# Altium footprint library TEP_243-Altium_Library.PcbLib: 103 footprints (part 6 of 7)
Each footprint in its own frame and in the unit in brackets; x right, y up, seen from the top. Pads: shape width x height; smd on the part's side, far side on the other; paste and mask are expansions set on the pad; w line width, h text height; cw(c..) or ccw(c..) is an arc to the next point about the centre after c.
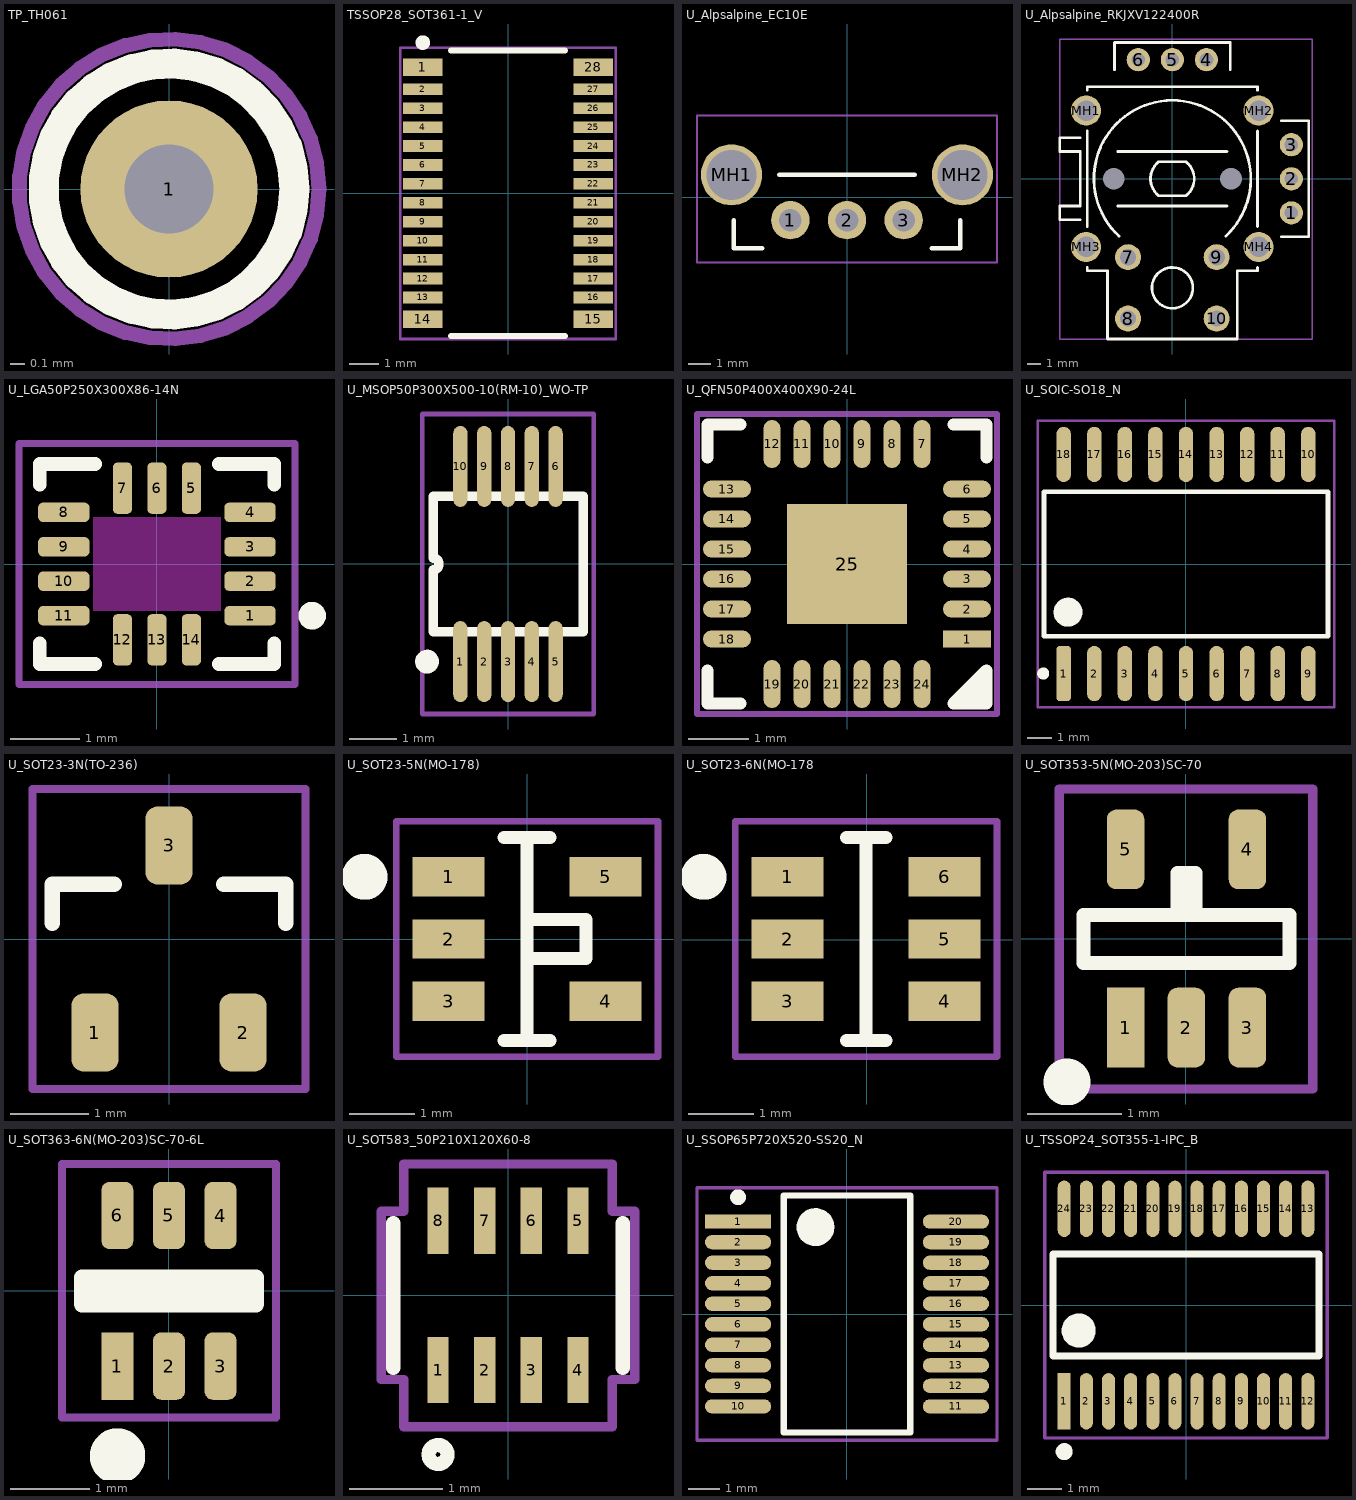
[diagram p5: the footprints below, top view; thin cyan lines are the x and y axes]

## TP_TH061 [mm] "Test point hole 0.61mm diameter (AWG28)"
height 0.01
pads (1):
  round 1.2 hole 0.6: 1(0,0)
Top Overlay:
  circle w0.203: c0,0 r0.85
Top Courtyard:
  circle w0.1: c0,0 r1.016

## TSSOP28_SOT361-1_V [mm] "SOP, 28-Leads, Body 9.7x4.4mm, Pitch 0.65mm, NXP Recommended"
height 1.1
pads (28):
  rect 1.35x0.6 smd: 1(-2.925,4.325) 14(-2.925,-4.325) 15(2.925,-4.325) 28(2.925,4.325)
  rect 1.35x0.4 smd: 2(-2.925,3.575) 3(-2.925,2.925) 4(-2.925,2.275) 5(-2.925,1.625) 6(-2.925,0.975) 7(-2.925,0.325) 8(-2.925,-0.325) 9(-2.925,-0.975) 10(-2.925,-1.625) 11(-2.925,-2.275) 12(-2.925,-2.925) 13(-2.925,-3.575) 16(2.925,-3.575) 17(2.925,-2.925) 18(2.925,-2.275) 19(2.925,-1.625) 20(2.925,-0.975) 21(2.925,-0.325) 22(2.925,0.325) 23(2.925,0.975) 24(2.925,1.625) 25(2.925,2.275) 26(2.925,2.925) 27(2.925,3.575)
Top Overlay:
  circle w0.25: c-2.925,5.175 r0.125
  lines w0.2: -1.96,-4.9 1.96,-4.9 ; -1.96,4.9 1.96,4.9
Top Courtyard:
  lines w0.1: -3.7,-5 3.7,-5 3.7,5 -3.7,5 -3.7,-5
Top Designator:
  text ".Designator" at 0,0.188 h1
3D body "TSSOP28__SOT361-1__NXP.step": height 1.09, standoff 0, extent -3.302,-4.902 3.302,4.902

## U_Alpsalpine_EC10E [mm] "Rotary Encoder TH"
pads (5):
  round 1.7 hole 1 paste-2539.97 mask+0: 1(-2.5,-1) 2(0,-1) 3(2.5,-1)
  round 2.7 hole 2.2 paste-2539.97 mask+0: MH1(-5.1,1) MH2(5.1,1)
Top Overlay:
  lines w0.2: -5,-1 -5,-2.25 -3.75,-2.25 ; -3,1 3,1 ; 3.75,-2.25 5,-2.25 5,-1
Top Courtyard:
  lines w0.1: -6.625,-2.875 -6.625,3.625 6.625,3.625 6.625,-2.875 -6.625,-2.875
Top Designator:
  text ".Designator" at -3.239,0.913 h1.5
3D body "ec10e1220503.step": height 14.6, standoff -3.5, extent -5.571,-2.675 5.571,3.425

## U_Alpsalpine_RKJXV122400R [mm] "Thumb Stick TH"
pads (16):
  round 1.7 hole 1 paste-2539.97 mask+0: 1(8.73,-2.5) 2(8.73,0) 3(8.73,2.5) 4(2.5,8.73) 5(0,8.73) 6(-2.5,8.73)
  round 1.9 hole 1.2 paste-2539.97 mask+0: 7(-3.25,-5.75) 8(-3.25,-10.25) 9(3.25,-5.75) 10(3.25,-10.25)
  round 2.2 hole 1.5 paste-2539.97 mask+0: MH1(-6.325,5) MH2(6.325,5) MH3(-6.325,-5) MH4(6.325,-5)
  round 0.5 hole 1.6 unplated paste-2539.97 mask+0: PH1(-4.3,0) PH2(4.3,0)
Top Overlay:
  circle w0.2: c0,-8 r1.5
  lines w0.2: -6.75,-3 -8.25,-3 -8.25,-2 -6.75,-2 -6.75,2 -8.25,2 -8.25,3 -6.75,3 ; -6.25,-6.5 -6.25,-6.75 -4.75,-6.75 -4.75,-11.75 4.75,-11.75 4.75,-6.75 6.25,-6.75 6.25,-6.5 ; -6.25,-3.5 -6.25,3.5 ; -6.25,6.5 -6.25,6.75 6.25,6.75 6.25,6.5 ; -4.25,8 -4.25,10 4.25,10 4.25,8 ; -4,-2 4,-2 ; -4,2 4,2 ; -3.918,-4.208 cw(c0,0) 0,5.75 cw(c0,0) 3.918,-4.208 ; 6.25,-3.5 6.25,3.5 ; 8,-4.25 10,-4.25 10,4.25 8,4.25 ; -1,-1.25 cw(c0,0) -1,1.25 1,1.25 cw(c0,0) 1,-1.25 -1,-1.25
Top Courtyard:
  lines w0.1: -8.25,-11.75 10.25,-11.75 10.25,10.25 -8.25,10.25 -8.25,-11.75
Top Designator:
  text ".Designator" at -3.239,-0.087 h1.5
3D body "RKJXV122400R.STEP": height 18.95, standoff -2.9, extent -8.113,-11.6 10.075,10.075

## U_LGA50P250X300X86-14N [mm]
pads (14):
  rrect50% 0.745x0.28 smd mask+0: 1(1.35,-0.75) 2(1.35,-0.25) 3(1.35,0.25) 4(1.35,0.75) 8(-1.35,0.75) 9(-1.35,0.25) 10(-1.35,-0.25) 11(-1.35,-0.75)
  rrect50% 0.28x0.745 smd mask+0: 5(0.5,1.1) 6(0,1.1) 7(-0.5,1.1) 12(-0.5,-1.1) 13(0,-1.1) 14(0.5,-1.1)
Top Layer keep-out:
  region: 0.925,-0.675 -0.925,-0.675 -0.925,0.675 0.925,0.675
Top Overlay:
  circle w0.2: c2.25,-0.75 r0.1
  lines w0.2: -1.7,-1.15 -1.7,-1.45 -0.9,-1.45 ; -1.7,1.15 -1.7,1.45 -0.9,1.45 ; 0.9,-1.45 1.7,-1.45 1.7,-1.15 ; 0.9,1.45 1.7,1.45 1.7,1.15
Top Courtyard:
  lines w0.1: -2,-1.75 2,-1.75 2,1.75 -2,1.75 -2,-1.75
Top Designator:
  text ".Designator" at -2.489,-0.212 h1.5
3D body "User Library-LGA-14L.STEP": height 0.91, standoff 0.04, extent -1.5,-1.25 1.5,1.25

## U_MSOP50P300X500-10(RM-10)_WO-TP [mm] "Shrink Small Outline; 10 Leads; Body Width 3 mm; Pitch 0.5 mm"
height 1.1
pads (10):
  oval 0.3x1.7 smd mask+0.05: 1(-1,-2.05) 2(-0.5,-2.05) 3(0,-2.05) 4(0.5,-2.05) 5(1,-2.05) 6(1,2.05) 7(0.5,2.05) 8(0,2.05) 9(-0.5,2.05) 10(-1,2.05)
Top Overlay:
  circle w0.25: c-1.7,-2.05 r0.125
  lines w0.2: -1.575,-1.425 -1.575,-0.125 ccw(c-1.575,0) -1.575,0.125 -1.575,1.425 1.575,1.425 1.575,-1.425 -1.575,-1.425
Top Courtyard:
  lines w0.1: -1.8,-3.15 -1.8,3.15 1.8,3.15 1.8,-3.15 -1.8,-3.15
Top Designator:
  text ".Designator" at -1.809,-0.226 h1
3D body "User Library-MSOP10-1.STEP": height 1.09, standoff 0, extent -1.6,-2.575 1.6,2.575

## U_QFN50P400X400X90-24L [mm]
pads (25):
  rect 0.8x0.28 smd mask+0: 1(2,-1.25)
  rrect100% 0.8x0.28 smd mask+0: 2(2,-0.75) 3(2,-0.25) 4(2,0.25) 5(2,0.75) 6(2,1.25) 13(-2,1.25) 14(-2,0.75) 15(-2,0.25) 16(-2,-0.25) 17(-2,-0.75) 18(-2,-1.25)
  rrect100% 0.28x0.8 smd mask+0: 7(1.25,2) 8(0.75,2) 9(0.25,2) 10(-0.25,2) 11(-0.75,2) 12(-1.25,2) 19(-1.25,-2) 20(-0.75,-2) 21(-0.25,-2) 22(0.25,-2) 23(0.75,-2) 24(1.25,-2)
  rect 2x2 smd mask+0: 25(0,0)
Top Overlay:
  lines w0.2: -2.325,-1.775 -2.325,-2.325 -1.775,-2.325 ; -2.325,1.775 -2.325,2.325 -1.775,2.325 ; 1.775,2.325 2.325,2.325 2.325,1.775 ; 2.05,-2.325 2.325,-2.05 ; 1.775,-2.325 2.325,-2.325 2.325,-1.775 1.775,-2.325
Top Courtyard:
  lines w0.1: -2.5,-2.5 -2.5,2.5 2.5,2.5 2.5,-2.5 -2.5,-2.5
Top Designator:
  text ".Designator" at -2.978,-0.439 h1.5
3D body "User Library-QFN24 Punch.STEP": height 0.65, standoff -0.02, extent -2,-2 2,2

## U_SOIC-SO18_N [mm]
pads (18):
  rrect50% 0.6x2.3 smd: 1(-5.08,-4.55)
  oval 0.6x2.3 smd: 2(-3.81,-4.55) 3(-2.54,-4.55) 4(-1.27,-4.55) 5(0,-4.55) 6(1.27,-4.55) 7(2.54,-4.55) 8(3.81,-4.55) 9(5.08,-4.55) 10(5.08,4.55) 11(3.81,4.55) 12(2.54,4.55) 13(1.27,4.55) 14(0,4.55) 15(-1.27,4.55) 16(-2.54,4.55) 17(-3.81,4.55) 18(-5.08,4.55)
Top Overlay:
  circle w0.6: c-4.9,-2 r0.3
  circle w0.25: c-5.93,-4.55 r0.125
  lines w0.2: -5.9,-3 -5.9,3 5.9,3 5.9,-3 -5.9,-3
Top Courtyard:
  lines w0.1: -6.15,-5.95 6.15,-5.95 6.15,5.95 -6.15,5.95 -6.15,-5.95
Top Designator:
  text ".Designator" at -3.239,-0.337 h1.5
3D body "6466311P.stp": height 2.61, standoff 0, extent -5.75,-5.155 5.807,5.155

## U_SOT23-3N(TO-236) [mm] "SOT23, 3-Leads, Body 2.9x1.3mm, Pitch 0.95mm, Lead Span 2.5mm, IPC Medium Density"
height 1.1
pads (3):
  rrect50% 0.6x1 smd: 1(-0.95,-1.2) 2(0.95,-1.2) 3(0,1.2)
Top Overlay:
  lines w0.2: -1.5,0.2 -1.5,0.7 -0.7,0.7 ; 0.7,0.7 1.5,0.7 1.5,0.2
Top Courtyard:
  lines w0.1: -1.75,-1.925 1.75,-1.925 1.75,1.925 -1.75,1.925 -1.75,-1.925
Top Designator:
  text ".Designator" at 0.212,-2.489 h1.5
3D body "SW3dPS-sot-3p290x130ll237h100.STEP": height 1, standoff 0, extent -1.45,-1.16 1.45,1.21

## U_SOT23-5N(MO-178) [mm]
height 1
pads (5):
  rect 1.1x0.6 smd: 1(-1.204,0.95) 2(-1.204,0) 3(-1.204,-0.95) 4(1.196,-0.95) 5(1.196,0.95)
Top Overlay:
  circle w0.5: c-2.488,0.95 r0.1
  lines w0.2: -0.354,-1.55 0.346,-1.55 ; -0.354,1.55 0.346,1.55 ; -0.004,-1.55 -0.004,1.55 ; -0.004,-0.3 0.896,-0.3 0.896,0.3 -0.004,0.3
Top Courtyard:
  lines w0.1: -2.004,-1.8 -2.004,1.8 1.996,1.8 1.996,-1.8 -2.004,-1.8
Top Designator:
  text ".Designator" at -0.337,2.614 h1.5
3D body "User Library-SOT23-5-2.STEP": height 1.45, standoff 0, extent -1.4,-1.45 1.4,1.45

## U_SOT23-6N(MO-178 [mm]
height 1
pads (6):
  rect 1.1x0.6 smd: 1(-1.21,0.962) 2(-1.21,0.012) 3(-1.21,-0.938) 4(1.19,-0.938) 5(1.19,0.012) 6(1.19,0.962)
Top Overlay:
  circle w0.5: c-2.494,0.962 r0.1
  lines w0.2: -0.31,-1.538 0.29,-1.538 ; -0.31,1.562 0.29,1.562 ; -0.01,-1.538 -0.01,1.562
Top Courtyard:
  lines w0.1: -2.01,-1.788 -2.01,1.812 1.99,1.812 1.99,-1.788 -2.01,-1.788
Top Designator:
  text ".Designator" at -0.337,2.489 h1.5
3D body "User Library-SOT23-6-2.STEP": height 1.45, standoff 0, extent -1.4,-1.45 1.4,1.45

## U_SOT353-5N(MO-203)SC-70 [mm]
height 1.45
pads (5):
  rect 0.4x0.85 smd: 1(-0.645,-0.944)
  rrect50% 0.4x0.85 smd: 2(0.005,-0.944) 3(0.655,-0.944) 4(0.655,0.956) 5(-0.645,0.956)
Top Overlay:
  circle w0.5: c-1.27,-1.524 r0
  lines w0.15: 0,0.706 0.1,0.706 ; 0.01,0.254 0.01,0.706 ; -0.09,0.254 -1.095,0.254 -1.095,-0.254 1.105,-0.254 1.105,0.254 0.1,0.254 ; -0.09,0.254 -0.09,0.706 0.1,0.706 ; -0.09,0.254 0.1,0.254 ; 0.1,0.254 0.1,0.706
Top Courtyard:
  lines w0.1: -1.35,-1.6 -1.35,1.6 1.35,1.6 1.35,-1.6 -1.35,-1.6
Top Designator:
  text ".Designator" at -2.489,-0.212 h1.5
3D body "User Library-SOT353-1.STEP": height 1.1, standoff 0, extent -1.1,-1.2 1.1,1.2

## U_SOT363-6N(MO-203)SC-70-6L [mm]
height 1.45
pads (6):
  rect 0.4x0.85 smd: 1(-0.65,-0.95)
  rrect50% 0.4x0.85 smd: 2(0,-0.95) 3(0.65,-0.95) 4(0.65,0.95) 5(0,0.95) 6(-0.65,0.95)
Top Overlay:
  circle w0.5: c-0.65,-2.085 r0.1
  lines w0.203: -1.1,-0.07 1.1,-0.07 ; -1.1,0.03 1.1,0.03 ; -1.1,-0.17 -1.1,0.17 0.095,0.17 1.1,0.17 1.1,-0.17 -1.1,-0.17
Top Courtyard:
  lines w0.1: -1.35,-1.6 -1.35,1.6 1.35,1.6 1.35,-1.6 -1.35,-1.6
Top Designator:
  text ".Designator" at -2.489,-0.212 h1.5
3D body "User Library-SOT-363.STEP": height 1, standoff -0.05, extent -1,-1.131 1,1.131

## U_SOT583_50P210X120X60-8 [mil] "SOT-583"
pads (8):
  rect 9x28 smd paste+0 mask+0: 1(-29.53,-31.5) 2(-9.84,-31.5) 3(9.84,-31.5) 4(29.53,-31.5) 5(29.53,31.5) 6(9.84,31.5) 7(-9.84,31.5) 8(-29.53,31.5)
Top Overlay:
  circle w6: c-29.53,-67.19 r4
  lines w6: -48.5,-30.5 -48.5,30.5 ; 48.5,-30.5 48.5,30.5
Top Courtyard:
  lines w3.94: -53.5,-35.5 -44.03,-35.5 -44.03,-55.5 44.03,-55.5 44.03,-35.5 53.5,-35.5 53.5,35.5 44.03,35.5 44.03,55.5 -44.03,55.5 -44.03,35.5 -53.5,35.5 -53.5,-35.5
Top Designator:
  text ".Designator" at 8.35,-98 h59.06
3D body "TPS631000DRLR_TEX.step": height 27.09, standoff 0, extent -43.5,-33.5 43.5,33.5

## U_SSOP65P720X520-SS20_N [mm] "SOP, 20-Leads, Body 7.2x5.2mm, Pitch 0.65mm, IPC Medium Density"
height 2
pads (20):
  rect 2.1x0.45 smd: 1(-3.45,2.925)
  oval 2.1x0.45 smd: 2(-3.45,2.275) 3(-3.45,1.625) 4(-3.45,0.975) 5(-3.45,0.325) 6(-3.45,-0.325) 7(-3.45,-0.975) 8(-3.45,-1.625) 9(-3.45,-2.275) 10(-3.45,-2.925) 11(3.45,-2.925) 12(3.45,-2.275) 13(3.45,-1.625) 14(3.45,-0.975) 15(3.45,-0.325) 16(3.45,0.325) 17(3.45,0.975) 18(3.45,1.625) 19(3.45,2.275) 20(3.45,2.925)
Top Overlay:
  circle w0.25: c-3.45,3.7 r0.125
  circle w0.6: c-1,2.75 r0.3
  lines w0.2: -2,-3.75 -2,3.75 2,3.75 2,-3.75 -2,-3.75
Top Courtyard:
  lines w0.1: -4.75,-4 -4.75,4 4.75,4 4.75,-4 -4.75,-4
Top Designator:
  text ".Designator" at 0,0.188 h1
3D body "User Library-SSOP-20.STEP": height 1.9, standoff 0, extent -3.9,-3.6 3.9,3.6

## U_TSSOP24_SOT355-1-IPC_B [mm]
pads (24):
  rect 0.381x1.655 smd paste+0 mask+0: 1(-3.575,-2.825)
  rrect100% 0.381x1.655 smd paste+0 mask+0: 2(-2.925,-2.825) 3(-2.275,-2.825) 4(-1.625,-2.825) 5(-0.975,-2.825) 6(-0.325,-2.825) 7(0.325,-2.825) 8(0.975,-2.825) 9(1.625,-2.825) 10(2.275,-2.825) 11(2.925,-2.825) 12(3.575,-2.825) 13(3.575,2.825) 14(2.925,2.825) 15(2.275,2.825) 16(1.625,2.825) 17(0.975,2.825) 18(0.325,2.825) 19(-0.325,2.825) 20(-0.975,2.825) 21(-1.625,2.825) 22(-2.275,2.825) 23(-2.925,2.825) 24(-3.575,2.825)
Top Overlay:
  circle w0.25: c-3.575,-4.303 r0.125
  circle w0.5: c-3.15,-0.748 r0.25
  lines w0.2: -3.9,-1.498 3.9,-1.498 3.9,1.498 -3.9,1.498 -3.9,-1.498
Top Courtyard:
  lines w0.1: -4.15,-3.903 4.15,-3.903 4.15,3.903 -4.15,3.903 -4.15,-3.903
Top Designator:
  text ".Designator" at -3.239,-0.337 h1.5
3D body "IC_NXP_Semiconductors_PCAL6416APW_118_eec.STEP": height 0.25, standoff 0, extent -4.15,-3.903 4.15,3.903